# EAGLE library part M131-P100 (library amd-mach)
AMD MACH SERIES
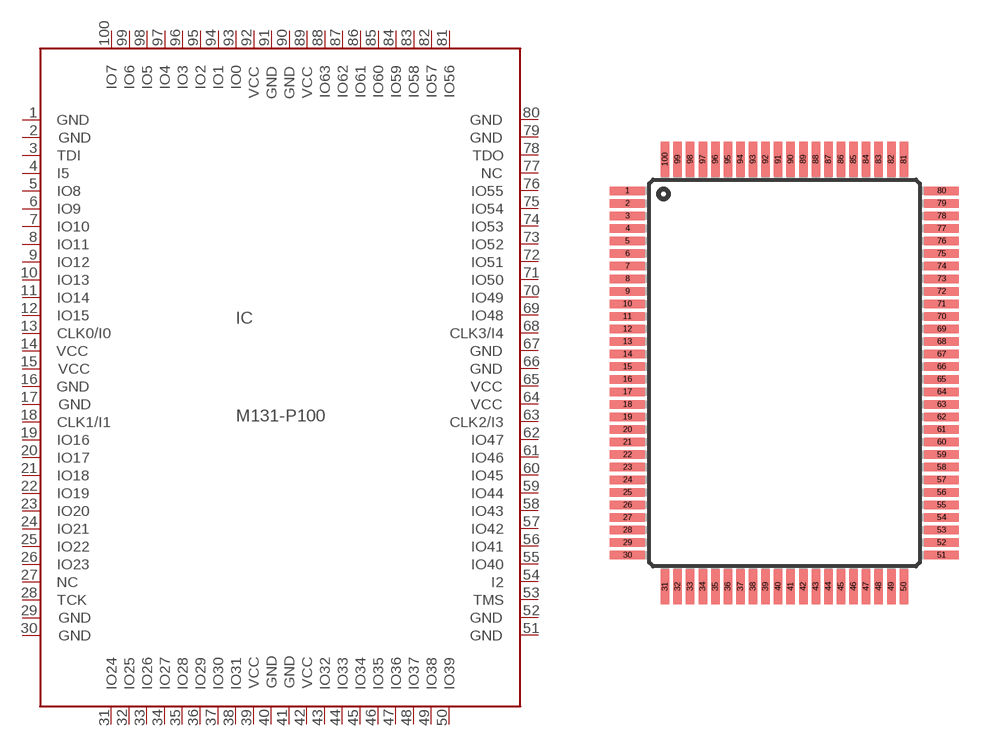
[diagram p29: symbol with the pads of PQFP100; footprint PQFP100]

Designator prefix IC

## M131-P100 (OC_FARNELL: unknown; OC_NEWARK: unknown)  [PQFP100]
1  GND  pwr
2  GND  pwr
3  TDI  in
4  I5  in
5  IO8
6  IO9
7  IO10
8  IO11
9  IO12
10  IO13
11  IO14
12  IO15
13  CLK0/I0  in
14  VCC  pwr
15  VCC  pwr
16  GND  pwr
17  GND  pwr
18  CLK1/I1  in
19  IO16
20  IO17
21  IO18
22  IO19
23  IO20
24  IO21
25  IO22
26  IO23
27  NC  nc
28  TCK  in
29  GND  pwr
30  GND  pwr
31  IO24
32  IO25
33  IO26
34  IO27
35  IO28
36  IO29
37  IO30
38  IO31
39  VCC  pwr
40  GND  pwr
41  GND  pwr
42  VCC  pwr
43  IO32
44  IO33
45  IO34
46  IO35
47  IO36
48  IO37
49  IO38
50  IO39
51  GND  pwr
52  GND  pwr
53  TMS  in
54  I2  in
55  IO40
56  IO41
57  IO42
58  IO43
59  IO44
60  IO45
61  IO46
62  IO47
63  CLK2/I3  in
64  VCC  pwr
65  VCC  pwr
66  GND  pwr
67  GND  pwr
68  CLK3/I4  in
69  IO48
70  IO49
71  IO50
72  IO51
73  IO52
74  IO53
75  IO54
76  IO55
77  NC1  nc
78  TDO  out
79  GND  pwr
80  GND  pwr
81  IO56
82  IO57
83  IO58
84  IO59
85  IO60
86  IO61
87  IO62
88  IO63
89  VCC  pwr
90  GND  pwr
91  GND  pwr
92  VCC  pwr
93  IO0
94  IO1
95  IO2
96  IO3
97  IO4
98  IO5
99  IO6
100  IO7

## Footprint PQFP100 (pad centres in mm)
PLASTIC QUAD FLAT PACK
smd 1.8 x 0.44: 1 -8.125,9.425; 2 -8.125,8.775; 3 -8.125,8.125; 4 -8.125,7.475; 5 -8.125,6.825; 6 -8.125,6.175; 7 -8.125,5.525; 8 -8.125,4.875; 9 -8.125,4.225; 10 -8.125,3.575; 11 -8.125,2.925; 12 -8.125,2.275; 13 -8.125,1.625; 14 -8.125,0.975; 15 -8.125,0.325; 16 -8.125,-0.325; 17 -8.125,-0.975; 18 -8.125,-1.625; 19 -8.125,-2.275; 20 -8.125,-2.925; 21 -8.125,-3.575; 22 -8.125,-4.225; 23 -8.125,-4.875; 24 -8.125,-5.525; 25 -8.125,-6.175; 26 -8.125,-6.825; 27 -8.125,-7.475; 28 -8.125,-8.125; 29 -8.125,-8.775; 30 -8.125,-9.425; 51 8.125,-9.425; 52 8.125,-8.775; 53 8.125,-8.125; 54 8.125,-7.475; 55 8.125,-6.825; 56 8.125,-6.175; 57 8.125,-5.525; 58 8.125,-4.875; 59 8.125,-4.225; 60 8.125,-3.575; 61 8.125,-2.925; 62 8.125,-2.275; 63 8.125,-1.625; 64 8.125,-0.975; 65 8.125,-0.325; 66 8.125,0.325; 67 8.125,0.975; 68 8.125,1.625; 69 8.125,2.275; 70 8.125,2.925; 71 8.125,3.575; 72 8.125,4.225; 73 8.125,4.875; 74 8.125,5.525; 75 8.125,6.175; 76 8.125,6.825; 77 8.125,7.475; 78 8.125,8.125; 79 8.125,8.775; 80 8.125,9.425
smd 0.44 x 1.8: 31 -6.175,-11.05; 32 -5.525,-11.05; 33 -4.875,-11.05; 34 -4.225,-11.05; 35 -3.575,-11.05; 36 -2.925,-11.05; 37 -2.275,-11.05; 38 -1.625,-11.05; 39 -0.975,-11.05; 40 -0.325,-11.05; 41 0.325,-11.05; 42 0.975,-11.05; 43 1.625,-11.05; 44 2.275,-11.05; 45 2.925,-11.05; 46 3.575,-11.05; 47 4.225,-11.05; 48 4.875,-11.05; 49 5.525,-11.05; 50 6.175,-11.05; 81 6.175,11.05; 82 5.525,11.05; 83 4.875,11.05; 84 4.225,11.05; 85 3.575,11.05; 86 2.925,11.05; 87 2.275,11.05; 88 1.625,11.05; 89 0.975,11.05; 90 0.325,11.05; 91 -0.325,11.05; 92 -0.975,11.05; 93 -1.625,11.05; 94 -2.275,11.05; 95 -2.925,11.05; 96 -3.575,11.05; 97 -4.225,11.05; 98 -4.875,11.05; 99 -5.525,11.05; 100 -6.175,11.05